# Altium schematic symbol library Trans_Vishay_SUD50P04-08-GE3_eec.SchLib: 1 symbol
Pins are listed as number, name and electrical type; pins without a type are passive.

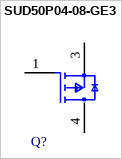
[diagram p0: symbol SUD50P04-08-GE3]

## SUD50P04-08-GE3
designator Q?  (value not drawn)
pins: 1 G, 3 S, 4 D